# EAGLE library part DRV8301 (library DRV8301)
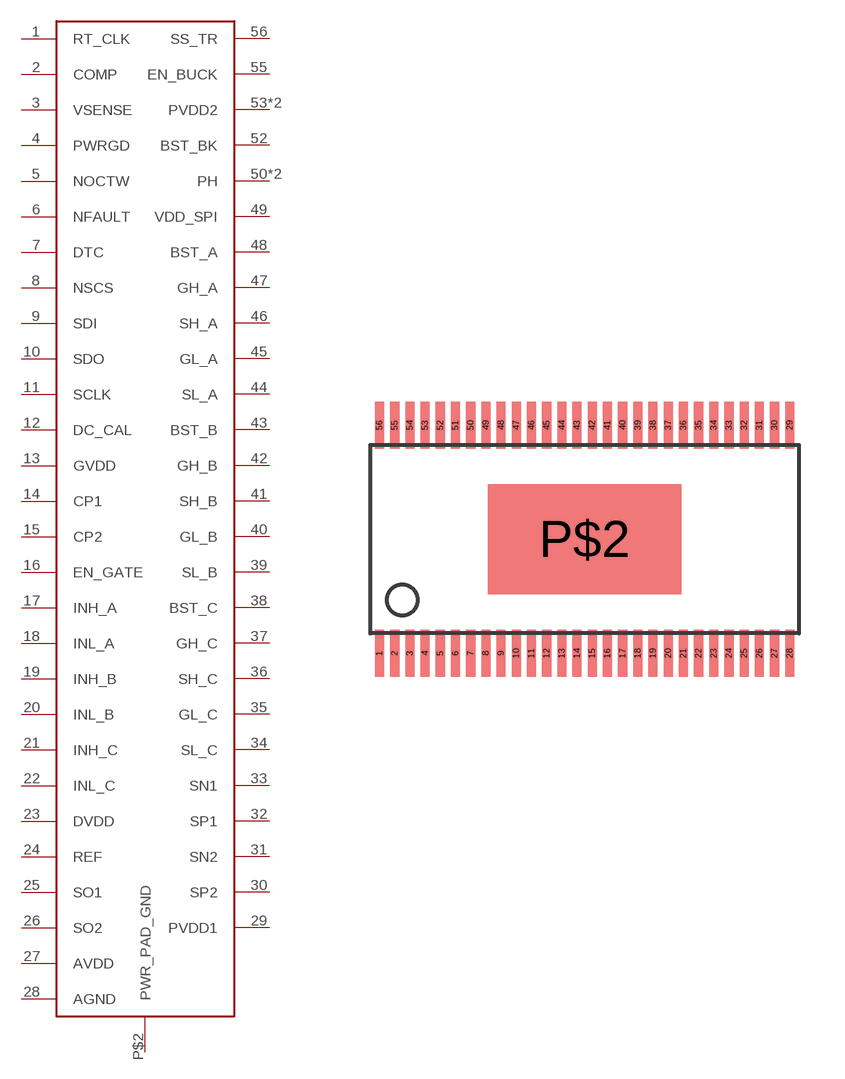
[diagram p0: symbol with the pads of DCA; footprint DCA]

Designator prefix -

## DRV8301  [DCA]
1  RT_CLK
2  COMP
3  VSENSE
4  PWRGD
5  NOCTW
6  NFAULT
7  DTC
8  NSCS
9  SDI
10  SDO
11  SCLK
12  DC_CAL
13  GVDD
14  CP1
15  CP2
16  EN_GATE
17  INH_A
18  INL_A
19  INH_B
20  INL_B
21  INH_C
22  INL_C
23  DVDD
24  REF
25  SO1
26  SO2
27  AVDD
28  AGND
29  PVDD1
30  SP2
31  SN2
32  SP1
33  SN1
34  SL_C
35  GL_C
36  SH_C
37  GH_C
38  BST_C
39  SL_B
40  GL_B
41  SH_B
42  GH_B
43  BST_B
44  SL_A
45  GL_A
46  SH_A
47  GH_A
48  BST_A
49  VDD_SPI
50  PH
51  PH
52  BST_BK
53  PVDD2
54  PVDD2
55  EN_BUCK
56  SS_TR
P$2  PWR_PAD_GND

## Footprint DCA (pad centres in mm)
smd 0.3 x 1.55: 1 -6.75,-3.75; 2 -6.25,-3.75; 3 -5.75,-3.75; 4 -5.25,-3.75; 5 -4.75,-3.75; 6 -4.25,-3.75; 7 -3.75,-3.75; 8 -3.25,-3.75; 9 -2.75,-3.75; 10 -2.25,-3.75; 11 -1.75,-3.75; 12 -1.25,-3.75; 13 -0.75,-3.75; 14 -0.25,-3.75; 15 0.25,-3.75; 16 0.75,-3.75; 17 1.25,-3.75; 18 1.75,-3.75; 19 2.25,-3.75; 20 2.75,-3.75; 21 3.25,-3.75; 22 3.75,-3.75; 23 4.25,-3.75; 24 4.75,-3.75; 25 5.25,-3.75; 26 5.75,-3.75; 27 6.25,-3.75; 28 6.75,-3.75; 29 6.75,3.75; 30 6.25,3.75; 31 5.75,3.75; 32 5.25,3.75; 33 4.75,3.75; 34 4.25,3.75; 35 3.75,3.75; 36 3.25,3.75; 37 2.75,3.75; 38 2.25,3.75; 39 1.75,3.75; 40 1.25,3.75; 41 0.75,3.75; 42 0.25,3.75; 43 -0.25,3.75; 44 -0.75,3.75; 45 -1.25,3.75; 46 -1.75,3.75; 47 -2.25,3.75; 48 -2.75,3.75; 49 -3.25,3.75; 50 -3.75,3.75; 51 -4.25,3.75; 52 -4.75,3.75; 53 -5.25,3.75; 54 -5.75,3.75; 55 -6.25,3.75; 56 -6.75,3.75
smd 6.35 x 3.61: P$2 0,0